# Altium schematic symbol library THD 4000 Series Components.SchLib: 125 symbols (part 3 of 3)
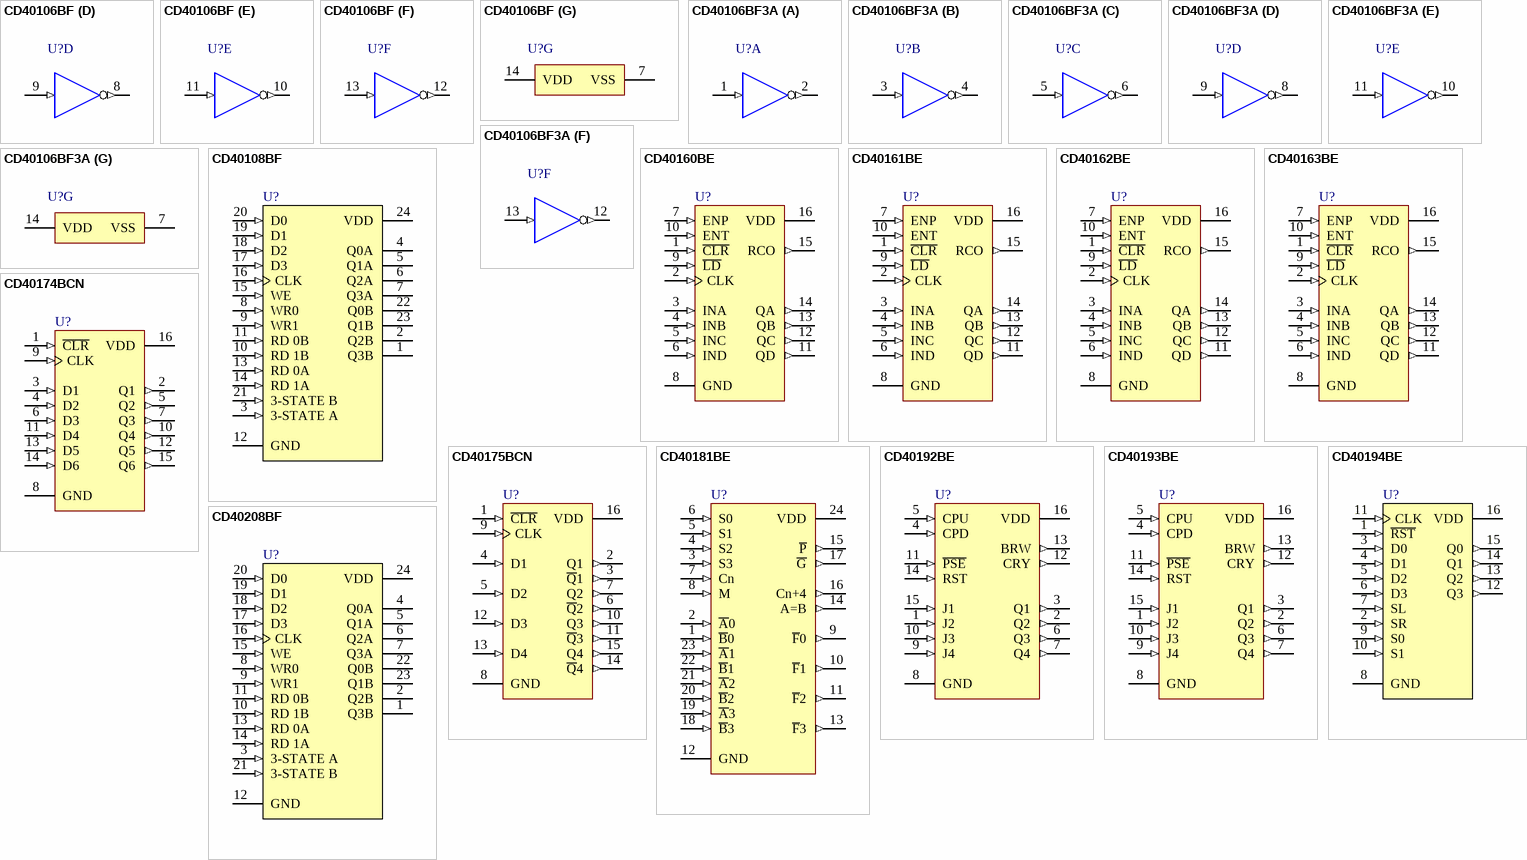
[diagram p9: symbols CD40106BF to CD40208BF]

## CD40193BE
designator U?
Presettable Up/Down Counter (Dual Clock with Reset) Binary Type; Published: 8-Jun-2000; LatestRevisionDate: 06-Jun-2005; LatestRevisionNote: Stylized 3D Model Added.; DatasheetVersion: Jun-1989; PackageVersion: Apr-1996; PackageReference: DIP16; Publisher: Altium Limited; PackageDescription: DIP; 16 Leads; Row Spacing 7.62 mm; Pitch 2.54 mm; ComponentLink1Description: Manufacturer Link; ComponentLink1URL: http://www.st.com/
footprint DIP16-300 (DIP, Molded; 16 Leads; Row Spacing 7.62 mm; Pitch 2.54 mm)
pins: 1 J2 (in), 2 Q2 (out), 3 Q1 (out), 4 CPD (in), 5 CPU (in), 6 Q3 (out), 7 Q4 (out), 8 GND (power), 9 J4 (in), 10 J3 (in), 11 ~{PSE} (in), 12 CRY (out), 13 BRW (out), 14 RST (in), 15 J1 (in), 16 VDD (power)

## CD40194BE
designator U?
4-Bit Bidirectional Universal Shift Register; Published: 8-Jun-2000; LatestRevisionDate: 06-Jun-2005; LatestRevisionNote: Stylized 3D Model Added.; DatasheetVersion: Jun-1989; PackageVersion: Apr-1996; PackageReference: DIP16; Publisher: Altium Limited; PackageDescription: DIP; 16 Leads; Row Spacing 7.62 mm; Pitch 2.54 mm; ComponentLink1Description: Manufacturer Link; ComponentLink1URL: http://www.st.com/
footprint DIP16-300 (DIP, Molded; 16 Leads; Row Spacing 7.62 mm; Pitch 2.54 mm)
pins: 1 ~{RST} (in), 2 SR (in), 3 D0 (in), 4 D1 (in), 5 D2 (in), 6 D3 (in), 7 SL (in), 8 GND (power), 9 S0 (in), 10 S1 (in), 11 CLK (in), 12 Q3 (out), 13 Q2 (out), 14 Q1 (out), 15 Q0 (out), 16 VDD (power)

## CD40208BF
designator U?
4 x 4 Multiport Register; Published: 8-Jun-2000; LatestRevisionDate: 06-Jun-2005; LatestRevisionNote: Stylized 3D Model Added.; DatasheetVersion: Jun-1989; PackageVersion: Sep-1988; PackageReference: CDIP24; Publisher: Altium Limited; PackageDescription: DIP; 24 Leads; Row Spacing 15.24 mm; Pitch 2.54 mm; ComponentLink1Description: Manufacturer Link; ComponentLink1URL: http://www.st.com/
footprint DIP-24-600 (DIP; 24 Leads; Row Spacing 15.24 mm; Pitch 2.54 mm)
pins: 1 Q3B (hiz), 2 Q2B (hiz), 3 3-STATE A (in), 4 Q0A (hiz), 5 Q1A (hiz), 6 Q2A (hiz), 7 Q3A (hiz), 8 WR0 (in), 9 WR1 (in), 10 RD 1B (in), 11 RD 0B (in), 12 GND (power), 13 RD 0A (in), 14 RD 1A (in), 15 WE (in), 16 CLK (in), 17 D3 (in), 18 D2 (in), 19 D1 (in), 20 D0 (in), 21 3-STATE B (in), 22 Q0B (hiz), 23 Q1B (hiz), 24 VDD (power)